# EAGLE library part ESP32-WROVER-CAM-2022 (library FansElectronics-Modul)
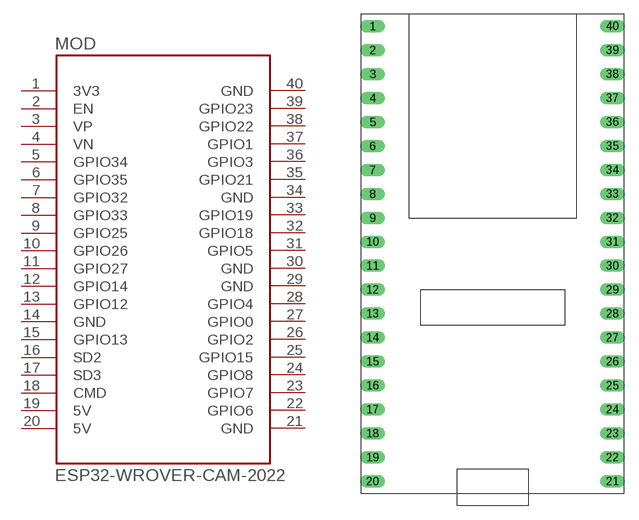
[diagram p25: symbol with the pads of ESP32-WROVER-CAM-2022; footprint ESP32-WROVER-CAM-2022]

Designator prefix MOD

## ESP32-WROVER-CAM-2022  [ESP32-WROVER-CAM-2022]
1  3V3  pwr
2  EN
3  VP
4  VN
5  GPIO34
6  GPIO35
7  GPIO32
8  GPIO33
9  GPIO25
10  GPIO26
11  GPIO27
12  GPIO14
13  GPIO12
14  GND  pwr
15  GPIO13
16  SD2
17  SD3
18  CMD
19  5V  pwr
20  5V  pwr
21  GND  pwr
22  GPIO6
23  GPIO7
24  GPIO8
25  GPIO15
26  GPIO2
27  GPIO0
28  GPIO4
29  GND  pwr
30  GND  pwr
31  GPIO5
32  GPIO18
33  GPIO19
34  GND  pwr
35  GPIO21
36  GPIO3
37  GPIO1
38  GPIO22
39  GPIO23
40  GND  pwr

## Footprint ESP32-WROVER-CAM-2022 (pad centres in mm)
drill 0.8 long: 1 -12.7,20.32; 2 -12.7,17.78; 3 -12.7,15.24; 4 -12.7,12.7; 5 -12.7,10.16; 6 -12.7,7.62; 7 -12.7,5.08; 8 -12.7,2.54; 9 -12.7,0; 10 -12.7,-2.54; 11 -12.7,-5.08; 12 -12.7,-7.62; 13 -12.7,-10.16; 14 -12.7,-12.7; 15 -12.7,-15.24; 16 -12.7,-17.78; 17 -12.7,-20.32; 18 -12.7,-22.86; 19 -12.7,-25.4; 20 -12.7,-27.94; 21 12.7,-27.94; 22 12.7,-25.4; 23 12.7,-22.86; 24 12.7,-20.32; 25 12.7,-17.78; 26 12.7,-15.24; 27 12.7,-12.7; 28 12.7,-10.16; 29 12.7,-7.62; 30 12.7,-5.08; 31 12.7,-2.54; 32 12.7,0; 33 12.7,2.54; 34 12.7,5.08; 35 12.7,7.62; 36 12.7,10.16; 37 12.7,12.7; 38 12.7,15.24; 39 12.7,17.78; 40 12.7,20.32